# Altium footprint library 1053091102.PcbLib: 1 footprints
Each footprint in its own frame and in the unit in brackets; x right, y up, seen from the top. Pads: shape width x height; smd on the part's side, far side on the other; paste and mask are expansions set on the pad; w line width, h text height; cw(c..) or ccw(c..) is an arc to the next point about the centre after c.
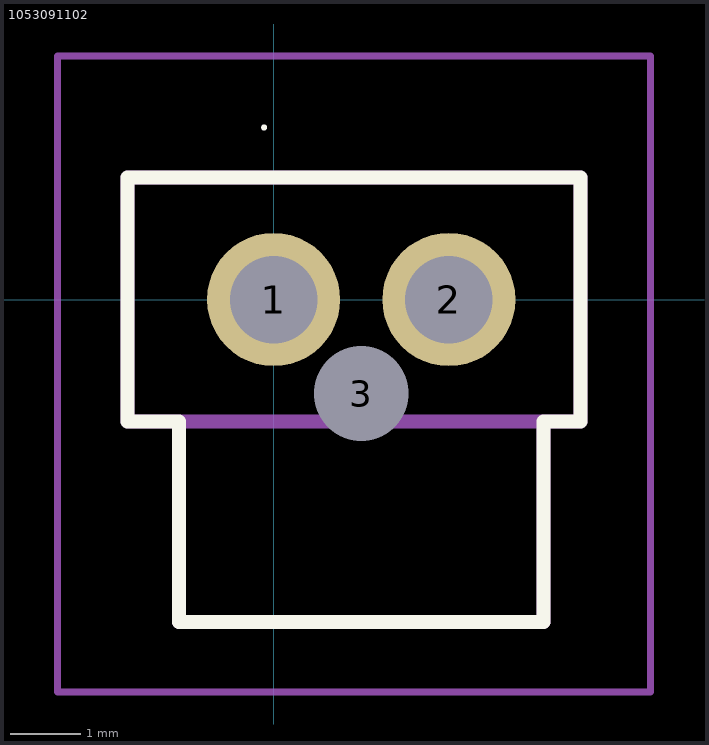
[diagram p0: the footprint, top view; thin cyan lines are the x and y axes]

## 1053091102 [mm]
pads (3):
  round 1.9 hole 1.25: 1(0,0) 2(2.5,0)
  round 0.675 hole 1.35 unplated: 3(1.25,-1.34)
Top Overlay:
  lines w0.044: -0.157,2.455 -0.157,2.455 ; -0.157,2.455 ccw(c-0.135,2.455) -0.113,2.455 ; -0.157,2.455 cw(c-0.135,2.455) -0.113,2.455 ; -0.113,2.455 -0.113,2.455
  lines w0.2: -2.081,-1.74 -2.081,1.74 4.374,1.74 4.374,-1.74 3.85,-1.74 3.85,-4.6 -1.35,-4.6 -1.35,-1.74 -2.081,-1.74
Mechanical 15:
  lines w0.2: -1.35,-1.74 -1.35,-4.6 3.85,-4.6 3.85,-1.74 ; -2.081,-1.74 4.374,-1.74 4.374,1.74 -2.081,1.74 -2.081,-1.74
Mechanical 20:
  lines w0.1: -3.081,-5.6 5.374,-5.6 5.374,3.477 -3.081,3.477 -3.081,-5.6